# EAGLE library part 18F26K20_T1_RING (library custom)
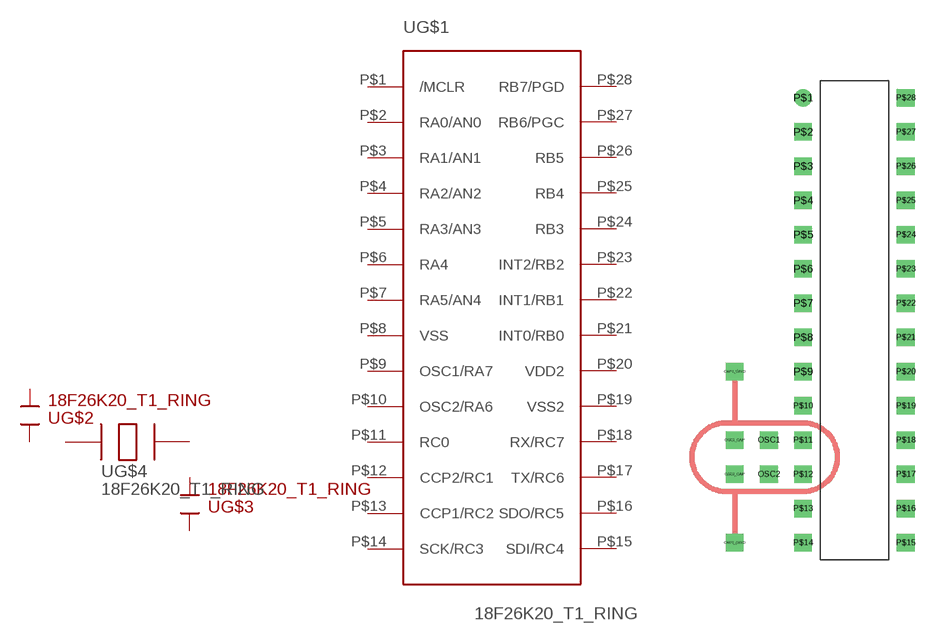
[diagram p25: symbol with the pads of 18F26K20_PDIP_T1_GUARD_RING; footprint 18F26K20_PDIP_T1_GUARD_RING]

Designator prefix -; gates G$1=18F26K20 G$2=CAPACITOR G$3=CAPACITOR G$4=CRYSTAL

## 18F26K20_T1_RING  [18F26K20_PDIP_T1_GUARD_RING]
CAP1_GND  G$2:1  pas
CAP2_GND  G$3:2  pas
OSC1  G$4:P$1
OSC1_CAP  G$2:2  pas
OSC2  G$4:P$2
OSC2_CAP  G$3:1  pas
P$1  G$1:/MCLR
P$2  G$1:RA0/AN0
P$3  G$1:RA1/AN1
P$4  G$1:RA2/AN2
P$5  G$1:RA3/AN3
P$6  G$1:RA4
P$7  G$1:RA5/AN4
P$8  G$1:VSS
P$9  G$1:OSC1/RA7
P$10  G$1:OSC2/RA6
P$11  G$1:RC0
P$12  G$1:CCP2/RC1
P$13  G$1:CCP1/RC2
P$14  G$1:SCK/RC3
P$15  G$1:SDI/RC4
P$16  G$1:SDO/RC5
P$17  G$1:TX/RC6
P$18  G$1:RX/RC7
P$19  G$1:VSS2
P$20  G$1:VDD2
P$21  G$1:INT0/RB0
P$22  G$1:INT1/RB1
P$23  G$1:INT2/RB2
P$24  G$1:RB3
P$25  G$1:RB4
P$26  G$1:RB5
P$27  G$1:RB6/PGC
P$28  G$1:RB7/PGD

## Footprint 18F26K20_PDIP_T1_GUARD_RING (pad centres in mm)
drill 0.8 square: CAP1_GND -8.89,-3.81; CAP2_GND -8.89,-16.51; OSC1 -6.35,-8.89; OSC1_CAP -8.89,-8.89; OSC2 -6.35,-11.43; OSC2_CAP -8.89,-11.43; P$2 -3.81,13.97; P$3 -3.81,11.43; P$4 -3.81,8.89; P$5 -3.81,6.35; P$6 -3.81,3.81; P$7 -3.81,1.27; P$8 -3.81,-1.27; P$9 -3.81,-3.81; P$10 -3.81,-6.35; P$11 -3.81,-8.89; P$12 -3.81,-11.43; P$13 -3.81,-13.97; P$14 -3.81,-16.51; P$15 3.81,-16.51; P$16 3.81,-13.97; P$17 3.81,-11.43; P$18 3.81,-8.89; P$19 3.81,-6.35; P$20 3.81,-3.81; P$21 3.81,-1.27; P$22 3.81,1.27; P$23 3.81,3.81; P$24 3.81,6.35; P$25 3.81,8.89; P$26 3.81,11.43; P$27 3.81,13.97; P$28 3.81,16.51
drill 0.8 round: P$1 -3.81,16.51